# Altium footprint library TLP181.PcbLib: 4 footprints
Each footprint in its own frame and in the unit in brackets; x right, y up, seen from the top. Pads: shape width x height; smd on the part's side, far side on the other; paste and mask are expansions set on the pad; w line width, h text height; cw(c..) or ccw(c..) is an arc to the next point about the centre after c.
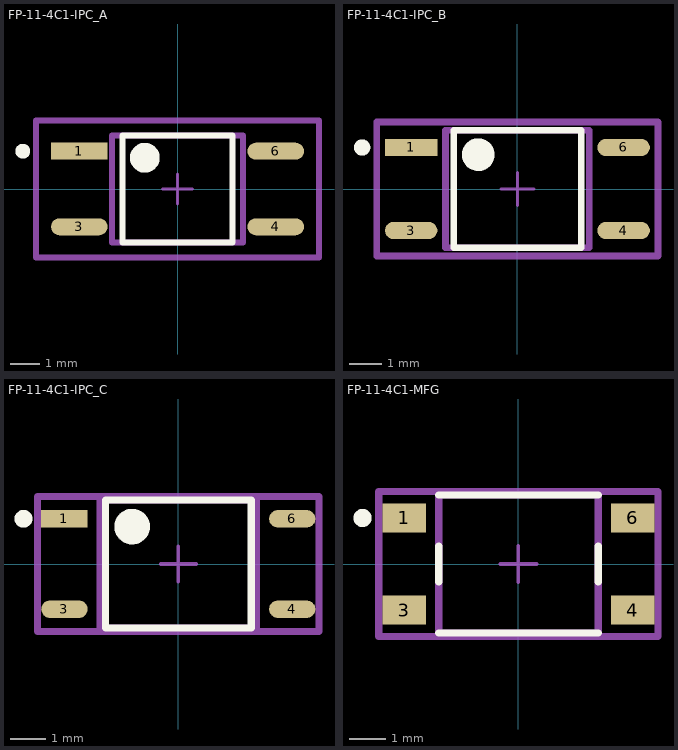
[diagram p0: the footprints below, top view; thin cyan lines are the x and y axes]

## FP-11-4C1-IPC_A [mm]
pads (4):
  rect 1.903x0.571 smd paste+0 mask+0: 1(-3.3,1.27)
  rrect100% 1.903x0.571 smd paste+0 mask+0: 3(-3.3,-1.27) 4(3.3,-1.27) 6(3.3,1.27)
Top Overlay:
  circle w0.5: c-1.098,1.05 r0.25
  circle w0.25: c-5.202,1.27 r0.125
  lines w0.2: -1.848,-1.8 1.848,-1.8 1.848,1.8 -1.848,1.8 -1.848,-1.8
Mechanical 5:
  lines w0.2: -4.752,-2.3 4.752,-2.3 4.752,2.3 -4.752,2.3 -4.752,-2.3
  text ".Designator" at 0,0.188 h1
Mechanical 13:
  lines w0.2: -2.2,-1.8 2.2,-1.8 2.2,1.8 -2.2,1.8 -2.2,-1.8
Mechanical 15:
  lines w0.2: -4.752,-2.3 4.752,-2.3 4.752,2.3 -4.752,2.3 -4.752,-2.3
Mechanical 16:
  lines w0.1: -0.5,0 0.5,0 ; 0,-0.5 0,0.5
3D body "Trans_Toshiba_TLP181_GB_eec.STEP": height 0.25, standoff 0, extent -4.752,-2.3 4.752,2.3

## FP-11-4C1-IPC_B [mm]
pads (4):
  rect 1.603x0.531 smd paste+0 mask+0: 1(-3.25,1.27)
  rrect100% 1.603x0.531 smd paste+0 mask+0: 3(-3.25,-1.27) 4(3.25,-1.27) 6(3.25,1.27)
Top Overlay:
  circle w0.5: c-1.198,1.05 r0.25
  circle w0.25: c-4.752,1.27 r0.125
  lines w0.2: -1.948,-1.8 1.948,-1.8 1.948,1.8 -1.948,1.8 -1.948,-1.8
Mechanical 5:
  lines w0.2: -4.302,-2.05 4.302,-2.05 4.302,2.05 -4.302,2.05 -4.302,-2.05
  text ".Designator" at 0,0.188 h1
Mechanical 13:
  lines w0.2: -2.2,-1.8 2.2,-1.8 2.2,1.8 -2.2,1.8 -2.2,-1.8
Mechanical 15:
  lines w0.2: -4.302,-2.05 4.302,-2.05 4.302,2.05 -4.302,2.05 -4.302,-2.05
Mechanical 16:
  lines w0.1: -0.5,0 0.5,0 ; 0,-0.5 0,0.5
3D body "Trans_Toshiba_TLP181_GB_eec.STEP": height 0.25, standoff 0, extent -4.302,-2.05 4.302,2.05

## FP-11-4C1-IPC_C [mm]
pads (4):
  rect 1.303x0.491 smd paste+0 mask+0: 1(-3.2,1.27)
  rrect100% 1.303x0.491 smd paste+0 mask+0: 3(-3.2,-1.27) 4(3.2,-1.27) 6(3.2,1.27)
Top Overlay:
  circle w0.5: c-1.298,1.05 r0.25
  circle w0.25: c-4.352,1.27 r0.125
  lines w0.2: -2.048,-1.8 2.048,-1.8 2.048,1.8 -2.048,1.8 -2.048,-1.8
Mechanical 5:
  lines w0.2: -3.952,-1.9 3.952,-1.9 3.952,1.9 -3.952,1.9 -3.952,-1.9
  text ".Designator" at 0,0.188 h1
Mechanical 13:
  lines w0.2: -2.2,-1.8 2.2,-1.8 2.2,1.8 -2.2,1.8 -2.2,-1.8
Mechanical 15:
  lines w0.2: -3.952,-1.9 3.952,-1.9 3.952,1.9 -3.952,1.9 -3.952,-1.9
Mechanical 16:
  lines w0.1: -0.5,0 0.5,0 ; 0,-0.5 0,0.5
3D body "Trans_Toshiba_TLP181_GB_eec.STEP": height 0.25, standoff 0, extent -3.952,-1.9 3.952,1.9

## FP-11-4C1-MFG [mm]
pads (4):
  rect 1.2x0.8 smd paste+0 mask+0: 1(-3.15,1.27) 3(-3.15,-1.27) 4(3.15,-1.27) 6(3.15,1.27)
Top Overlay:
  circle w0.25: c-4.3,1.27 r0.125
  lines w0.2: -2.2,-1.9 2.2,-1.9 ; -2.2,-0.495 -2.2,0.495 ; -2.2,1.9 2.2,1.9 ; 2.2,-0.495 2.2,0.495
Mechanical 5:
  lines w0.2: -3.85,-2 3.85,-2 3.85,2 -3.85,2 -3.85,-2
  text ".Designator" at 0,0.188 h1
Mechanical 13:
  lines w0.2: -2.2,-1.9 2.2,-1.9 2.2,1.9 -2.2,1.9 -2.2,-1.9
Mechanical 15:
  lines w0.2: -3.85,-2 3.85,-2 3.85,2 -3.85,2 -3.85,-2
Mechanical 16:
  lines w0.1: -0.5,0 0.5,0 ; 0,-0.5 0,0.5
3D body "Trans_Toshiba_TLP181_GB_eec.STEP": height 0.25, standoff 0, extent -3.85,-2 3.85,2